# EAGLE library part MCP2221 (library Webmaster442)
Dual In Line / Socket
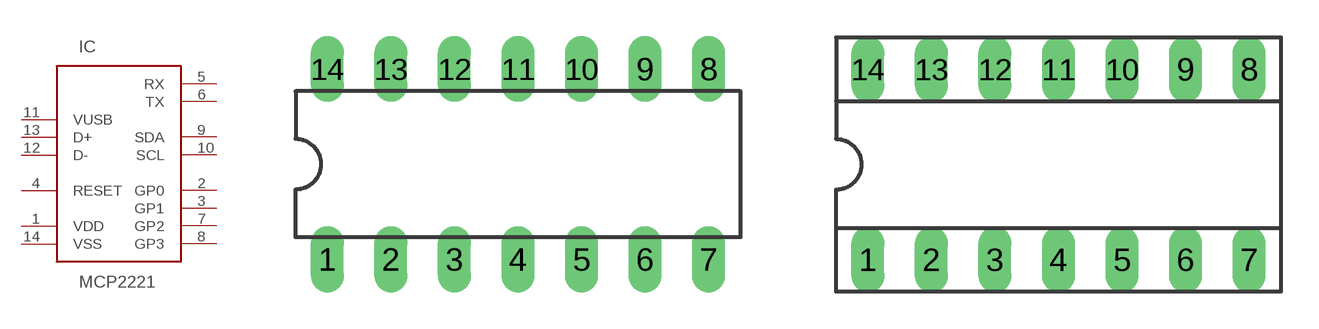
[diagram p24: symbol with the pads of DIL14; footprints DIL14, SOCKET-14]

Designator prefix IC

## MCP2221  [DIL14]
1  VDD
2  GP0
3  GP1
4  RESET
5  RX
6  TX
7  GP2
8  GP3
9  SDA
10  SCL
11  VUSB
12  D-
13  D+
14  VSS

## MCP2221S  [SOCKET-14]

## Footprint DIL14 (pad centres in mm)
Dual In Line Package
drill 0.813 long: 1 -7.62,-3.81; 2 -5.08,-3.81; 3 -2.54,-3.81; 4 0,-3.81; 5 2.54,-3.81; 6 5.08,-3.81; 7 7.62,-3.81; 8 7.62,3.81; 9 5.08,3.81; 10 2.54,3.81; 11 0,3.81; 12 -2.54,3.81; 13 -5.08,3.81; 14 -7.62,3.81

## Footprint SOCKET-14 (pad centres in mm)
Dual In Line Socket
drill 0.813 long: 1 -7.62,-3.81; 2 -5.08,-3.81; 3 -2.54,-3.81; 4 0,-3.81; 5 2.54,-3.81; 6 5.08,-3.81; 7 7.62,-3.81; 8 7.62,3.81; 9 5.08,3.81; 10 2.54,3.81; 11 0,3.81; 12 -2.54,3.81; 13 -5.08,3.81; 14 -7.62,3.81